# EAGLE library part 90816-0320 (library rezzonics)
Molex 90816-0320
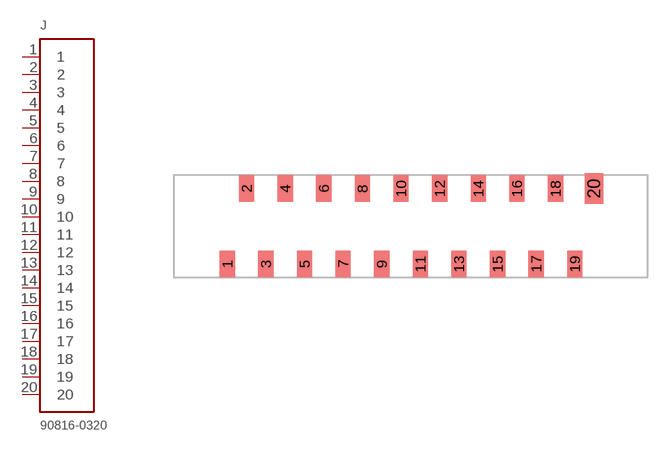
[diagram p17: symbol with the pads of 90816-0320; footprint 90816-0320]

Designator prefix J

## 90816-0320  [90816-0320]
1  1  pas
2  2  pas
3  3  pas
4  4  pas
5  5  pas
6  6  pas
7  7  pas
8  8  pas
9  9  pas
10  10  pas
11  11  pas
12  12  pas
13  13  pas
14  14  pas
15  15  pas
16  16  pas
17  17  pas
18  18  pas
19  19  pas
20  20  pas

## Footprint 90816-0320 (pad centres in mm)
smd 1 x 1.75: 1 -12.08,-2.475; 2 -10.81,2.475; 3 -9.54,-2.475; 4 -8.27,2.475; 5 -7,-2.475; 6 -5.73,2.475; 7 -4.46,-2.475; 8 -3.19,2.475; 9 -1.92,-2.475; 10 -0.65,2.475; 11 0.62,-2.475; 12 1.89,2.475; 13 3.16,-2.475; 14 4.43,2.475; 15 5.7,-2.475; 16 6.97,2.475; 17 8.24,-2.475; 18 9.51,2.475; 19 10.78,-2.475
smd 1.2 x 2: 20 12.05,2.475